# EAGLE library part LT1054 (library linear-technology)
Voltage Regulator Switched Capacitor Voltage Convertor
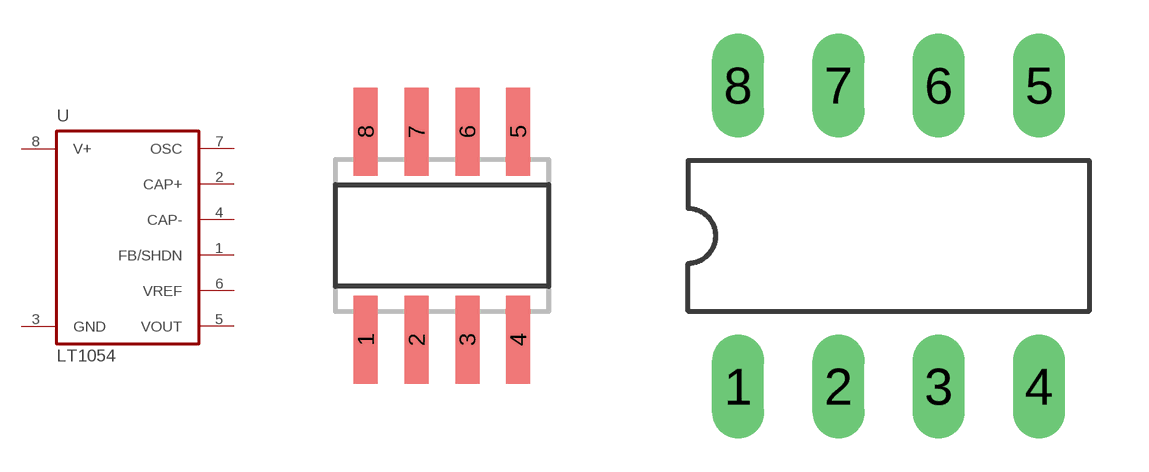
[diagram p33: symbol with the pads of SO08; footprints SO08, DIL08]

Designator prefix U

## LT1054S8 (P1I: o)  [SO08]
1  FB/SHDN
2  CAP+
3  GND
4  CAP-
5  VOUT
6  VREF
7  OSC
8  V+

## LT1054N8 (P1I: o)  [DIL08]
Pads as for SO08

## Footprint SO08 (pad centres in mm)
SMALL OUTLINE INTEGRATED CIRCUIT body 3.9 mm/JEDEC MS-012AA
smd 0.6 x 2.2: 1 -1.905,-2.6; 2 -0.635,-2.6; 3 0.635,-2.6; 4 1.905,-2.6; 5 1.905,2.6; 6 0.635,2.6; 7 -0.635,2.6; 8 -1.905,2.6

## Footprint DIL08 (pad centres in mm)
Dual In Line Package
drill 0.813 long: 1 -3.81,-3.81; 2 -1.27,-3.81; 3 1.27,-3.81; 4 3.81,-3.81; 5 3.81,3.81; 6 1.27,3.81; 7 -1.27,3.81; 8 -3.81,3.81